# Altium schematic symbol library Blue Pill Module.SchLib: 1 symbol
Pins are listed as number, name and electrical type; pins without a type are passive.

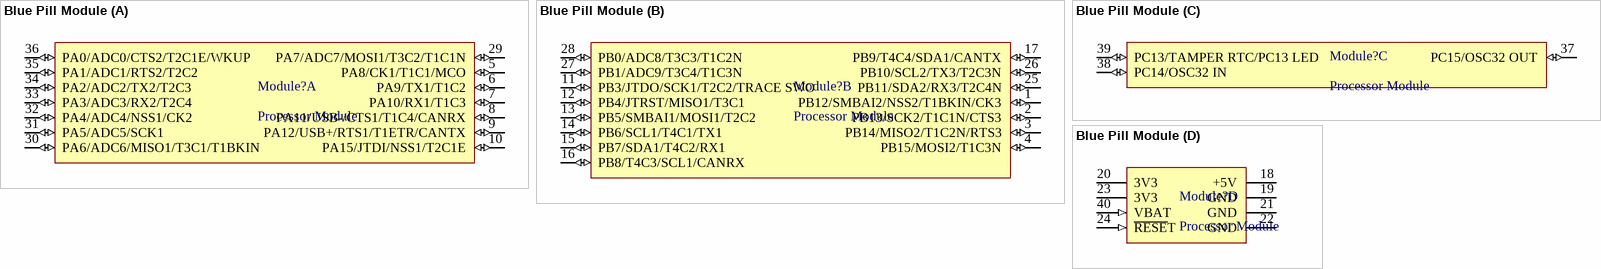
[diagram p0: symbol Blue Pill Module]

## Blue Pill Module
designator Module?, comment Processor Module
STM32F103C8T6 Module; Additionner: M.Moghimi; Part Number: STM32F103C8T6 Module; Adding Time: 1400/06/19
footprint Blue Pill Module (STM32F103C8T6 Module)
part A pins: 5 PA8/CK1/T1C1/MCO (io), 6 PA9/TX1/T1C2 (io), 7 PA10/RX1/T1C3 (io), 8 PA11/USB-/CTS1/T1C4/CANRX (io), 9 PA12/USB+/RTS1/T1ETR/CANTX (io), 10 PA15/JTDI/NSS1/T2C1E (io), 29 PA7/ADC7/MOSI1/T3C2/T1C1N (io), 30 PA6/ADC6/MISO1/T3C1/T1BKIN (io), 31 PA5/ADC5/SCK1 (io), 32 PA4/ADC4/NSS1/CK2 (io), 33 PA3/ADC3/RX2/T2C4 (io), 34 PA2/ADC2/TX2/T2C3 (io), 35 PA1/ADC1/RTS2/T2C2 (io), 36 PA0/ADC0/CTS2/T2C1E/WKUP (io)
part B pins: 1 PB12/SMBAI2/NSS2/T1BKIN/CK3 (io), 2 PB13/SCK2/T1C1N/CTS3 (io), 3 PB14/MISO2/T1C2N/RTS3 (io), 4 PB15/MOSI2/T1C3N (io), 11 PB3/JTDO/SCK1/T2C2/TRACE SWO (io), 12 PB4/JTRST/MISO1/T3C1 (io), 13 PB5/SMBAI1/MOSI1/T2C2 (io), 14 PB6/SCL1/T4C1/TX1 (io), 15 PB7/SDA1/T4C2/RX1 (io), 16 PB8/T4C3/SCL1/CANRX (io), 17 PB9/T4C4/SDA1/CANTX (io), 25 PB11/SDA2/RX3/T2C4N (io), 26 PB10/SCL2/TX3/T2C3N (io), 27 PB1/ADC9/T3C4/T1C3N (io), 28 PB0/ADC8/T3C3/T1C2N (io)
part C pins: 37 PC15/OSC32 OUT (io), 38 PC14/OSC32 IN (io), 39 PC13/TAMPER RTC/PC13 LED (io)
part D pins: 18 +5V (power), 19 GND (power), 20 3V3 (power), 21 GND (power), 22 GND (power), 23 3V3 (power), 24 ~{RESE}T (in), 40 VBAT (in)